# Altium schematic symbol library disp.SchLib: 1 symbol
Pins are listed as number, name and electrical type; pins without a type are passive.

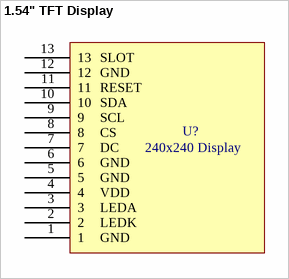
[diagram p0: symbol 1.54" TFT Display]

## 1.54" TFT Display
designator U?
footprint PCBComponent_1
pins: 1, 2, 3, 4, 5, 6, 7, 8, 9, 10, 11, 12, 13
text: SLOT; GND; RESET; SDA; SCL; CS; DC; 240x240 Display; VDD; LEDA; LEDK